# EAGLE library part STM32L152RDT6 (library circuit_tree)
IC
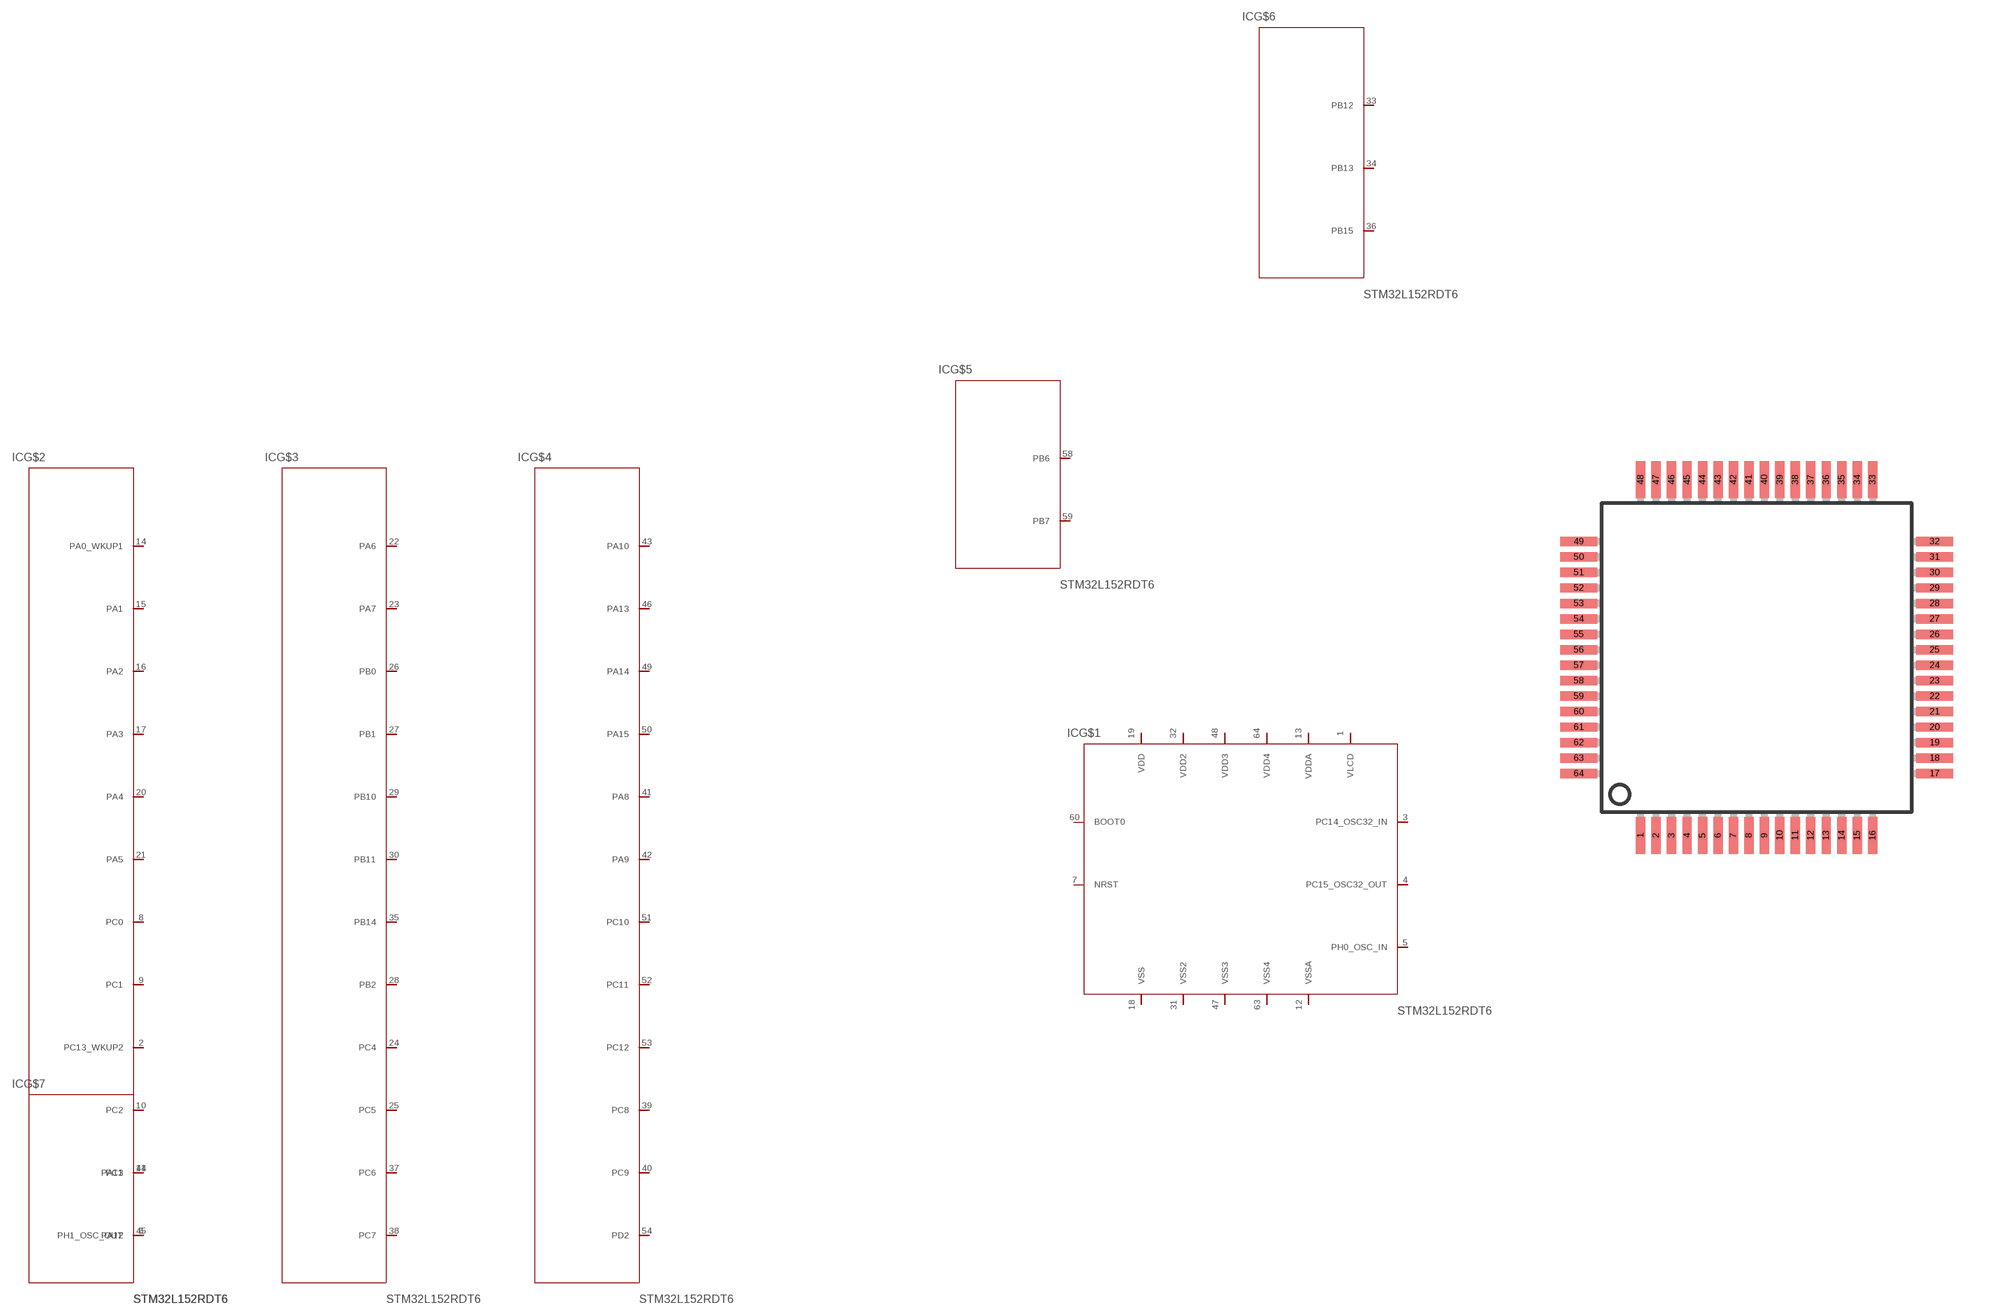
[diagram p5: symbol with the pads of LQFP64; footprint LQFP64]

Designator prefix IC; gates G$1=STM32L152RDT6 G$2=STM32L152RDT62 G$3=STM32L152RDT63 G$4=STM32L152RDT64 G$5=STM32L152RDT65 G$6=STM32L152RDT66 G$7=STM32L152RDT67

## STM32L152RDT6  [LQFP64]
1  G$1:VLCD  pas
2  G$2:PC13_WKUP2  pas
3  G$1:PC14_OSC32_IN  pas
4  G$1:PC15_OSC32_OUT  pas
5  G$1:PH0_OSC_IN  pas
6  G$2:PH1_OSC_OUT  pas
7  G$1:NRST  pas
8  G$2:PC0  pas
9  G$2:PC1  pas
10  G$2:PC2  pas
11  G$2:PC3  pas
12  G$1:VSSA  pas
13  G$1:VDDA  pas
14  G$2:PA0_WKUP1  pas
15  G$2:PA1  pas
16  G$2:PA2  pas
17  G$2:PA3  pas
18  G$1:VSS  pas
19  G$1:VDD  pas
20  G$2:PA4  pas
21  G$2:PA5  pas
22  G$3:PA6  pas
23  G$3:PA7  pas
24  G$3:PC4  pas
25  G$3:PC5  pas
26  G$3:PB0  pas
27  G$3:PB1  pas
28  G$3:PB2  pas
29  G$3:PB10  pas
30  G$3:PB11  pas
31  G$1:VSS2  pas
32  G$1:VDD2  pas
33  G$6:PB12  pas
34  G$6:PB13  pas
35  G$3:PB14  pas
36  G$6:PB15  pas
37  G$3:PC6  pas
38  G$3:PC7  pas
39  G$4:PC8  pas
40  G$4:PC9  pas
41  G$4:PA8  pas
42  G$4:PA9  pas
43  G$4:PA10  pas
44  G$7:PA11  pas
45  G$7:PA12  pas
46  G$4:PA13  pas
47  G$1:VSS3  pas
48  G$1:VDD3  pas
49  G$4:PA14  pas
50  G$4:PA15  pas
51  G$4:PC10  pas
52  G$4:PC11  pas
53  G$4:PC12  pas
54  G$4:PD2  pas
58  G$5:PB6  pas
59  G$5:PB7  pas
60  G$1:BOOT0  pas
63  G$1:VSS4  pas
64  G$1:VDD4  pas

## Footprint LQFP64 (pad centres in mm)
LQFP64 10 x 10 mm, 64-pin low-profile quad flat package
smd 0.3 x 1.2: 1 -3.75,-5.75; 2 -3.25,-5.75; 3 -2.75,-5.75; 4 -2.25,-5.75; 5 -1.75,-5.75; 6 -1.25,-5.75; 7 -0.75,-5.75; 8 -0.25,-5.75; 9 0.25,-5.75; 10 0.75,-5.75; 11 1.25,-5.75; 12 1.75,-5.75; 13 2.25,-5.75; 14 2.75,-5.75; 15 3.25,-5.75; 16 3.75,-5.75; 33 3.75,5.75; 34 3.25,5.75; 35 2.75,5.75; 36 2.25,5.75; 37 1.75,5.75; 38 1.25,5.75; 39 0.75,5.75; 40 0.25,5.75; 41 -0.25,5.75; 42 -0.75,5.75; 43 -1.25,5.75; 44 -1.75,5.75; 45 -2.25,5.75; 46 -2.75,5.75; 47 -3.25,5.75; 48 -3.75,5.75
smd 1.2 x 0.3: 17 5.75,-3.75; 18 5.75,-3.25; 19 5.75,-2.75; 20 5.75,-2.25; 21 5.75,-1.75; 22 5.75,-1.25; 23 5.75,-0.75; 24 5.75,-0.25; 25 5.75,0.25; 26 5.75,0.75; 27 5.75,1.25; 28 5.75,1.75; 29 5.75,2.25; 30 5.75,2.75; 31 5.75,3.25; 32 5.75,3.75; 49 -5.75,3.75; 50 -5.75,3.25; 51 -5.75,2.75; 52 -5.75,2.25; 53 -5.75,1.75; 54 -5.75,1.25; 55 -5.75,0.75; 56 -5.75,0.25; 57 -5.75,-0.25; 58 -5.75,-0.75; 59 -5.75,-1.25; 60 -5.75,-1.75; 61 -5.75,-2.25; 62 -5.75,-2.75; 63 -5.75,-3.25; 64 -5.75,-3.75